# Altium schematic symbol library Test Points.SchLib: 1 symbol
Pins are listed as number, name and electrical type; pins without a type are passive.

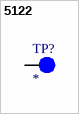
[diagram p0: symbol 5122]

## 5122
designator TP?
PC TEST POINT COMPACT BLUE
footprint KEYSTONE_5122
pins: 1